# Altium footprint library IC_DEBOUNCE_8IN8OUT_SMD.PcbLib: 1 footprints
Each footprint in its own frame and in the unit in brackets; x right, y up, seen from the top. Pads: shape width x height; smd on the part's side, far side on the other; paste and mask are expansions set on the pad; w line width, h text height; cw(c..) or ccw(c..) is an arc to the next point about the centre after c.
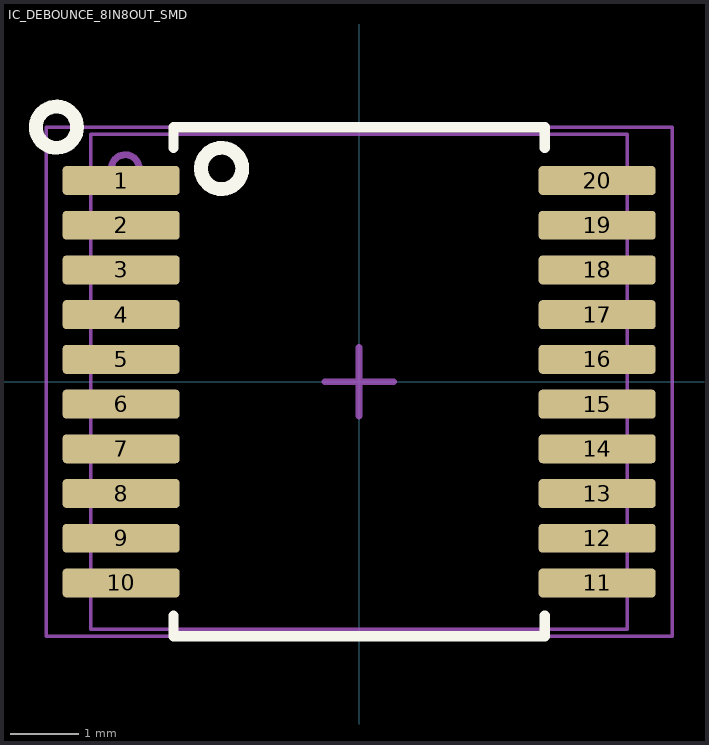
[diagram p0: the footprint, top view; thin cyan lines are the x and y axes]

## IC_DEBOUNCE_8IN8OUT_SMD [mm]
pads (20):
  rrect25% 1.7x0.42 smd: 1(-3.46,2.925) 2(-3.46,2.275) 3(-3.46,1.625) 4(-3.46,0.975) 5(-3.46,0.325) 6(-3.46,-0.325) 7(-3.46,-0.975) 8(-3.46,-1.625) 9(-3.46,-2.275) 10(-3.46,-2.925) 11(3.46,-2.925) 12(3.46,-2.275) 13(3.46,-1.625) 14(3.46,-0.975) 15(3.46,-0.325) 16(3.46,0.325) 17(3.46,0.975) 18(3.46,1.625) 19(3.46,2.275) 20(3.46,2.925)
Top Overlay:
  circle w0.2: c-2,3.1 r0.3
  circle w0.2: c-4.4,3.7 r0.3
  lines w0.15: -2.7,-3.4 -2.7,-3.7 2.7,-3.7 2.7,-3.4 ; -2.7,3.4 -2.7,3.7 2.7,3.7 2.7,3.4
Top Assembly:
  circle w0.1: c-3.4,3.1 r0.2
  lines w0.05: -3.9,-3.6 3.9,-3.6 3.9,3.6 -3.9,3.6 -3.9,-3.6
  text ".designator" at -4.998,-0.333 h1
Top Courtyard:
  lines w0.05: -4.55,-3.7 4.55,-3.7 4.55,3.7 -4.55,3.7 -4.55,-3.7
  lines w0.1: -0.5,0 0.5,0 ; 0,-0.5 0,0.5
3D body "MAX6818EAP+T.STEP": height 2, standoff 0.01, extent -3.888,-3.6 3.888,3.6